# Altium schematic symbol library Chipset.SchLib: 12 symbols
Pins are listed as number, name and electrical type; pins without a type are passive.

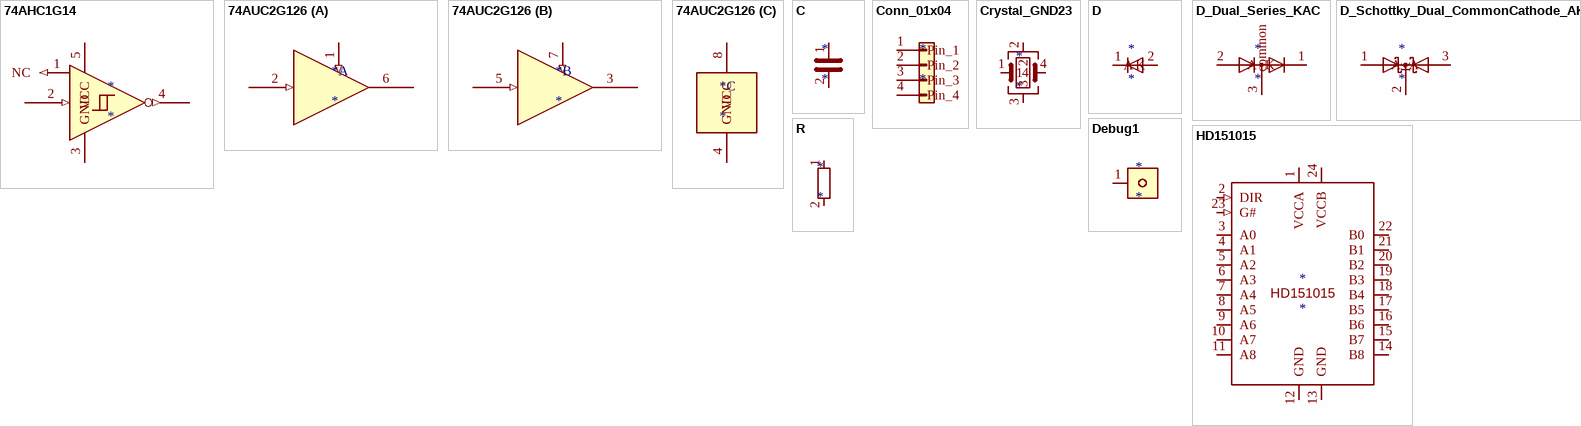
[diagram p0: symbols 74AHC1G14 to R]

## 74AHC1G14
designator *
pins: 1 NC (in), 2 (in), 3 GND (power), 4 (out), 5 VCC (power)

## 74AUC2G126
designator *
part A pins: 1 (in), 2 (in), 6 (hiz)
part B pins: 3 (hiz), 5 (in), 7 (in)
part C pins: 4 GND (power), 8 VCC (power)

## C
designator *
pins: 1, 2

## Conn_01x04
designator *
pins: 1 Pin_1, 2 Pin_2, 3 Pin_3, 4 Pin_4

## Crystal_GND23
designator *
pins: 1, 2, 3, 4

## D
designator *
pins: 1 K, 2 A

## D_Dual_Series_KAC
designator *
pins: 1 K, 2 A, 3 common

## D_Schottky_Dual_CommonCathode_AKA
designator *
pins: 1 A, 2 K, 3 A

## Debug1
designator *
pins: 1

## HD151015
designator *
pins: 1 VCCA (power), 2 DIR (in), 3 A0 (io), 4 A1 (io), 5 A2 (io), 6 A3 (io), 7 A4 (io), 8 A5 (io), 9 A6 (io), 10 A7 (io), 11 A8 (io), 12 GND (power), 13 GND (power), 14 B8 (io), 15 B7 (io), 16 B6 (io), 17 B5 (io), 18 B4 (io), 19 B3 (io), 20 B2 (io), 21 B1 (io), 22 B0 (io), 23 G# (in), 24 VCCB (power)

## R
designator *
pins: 1, 2

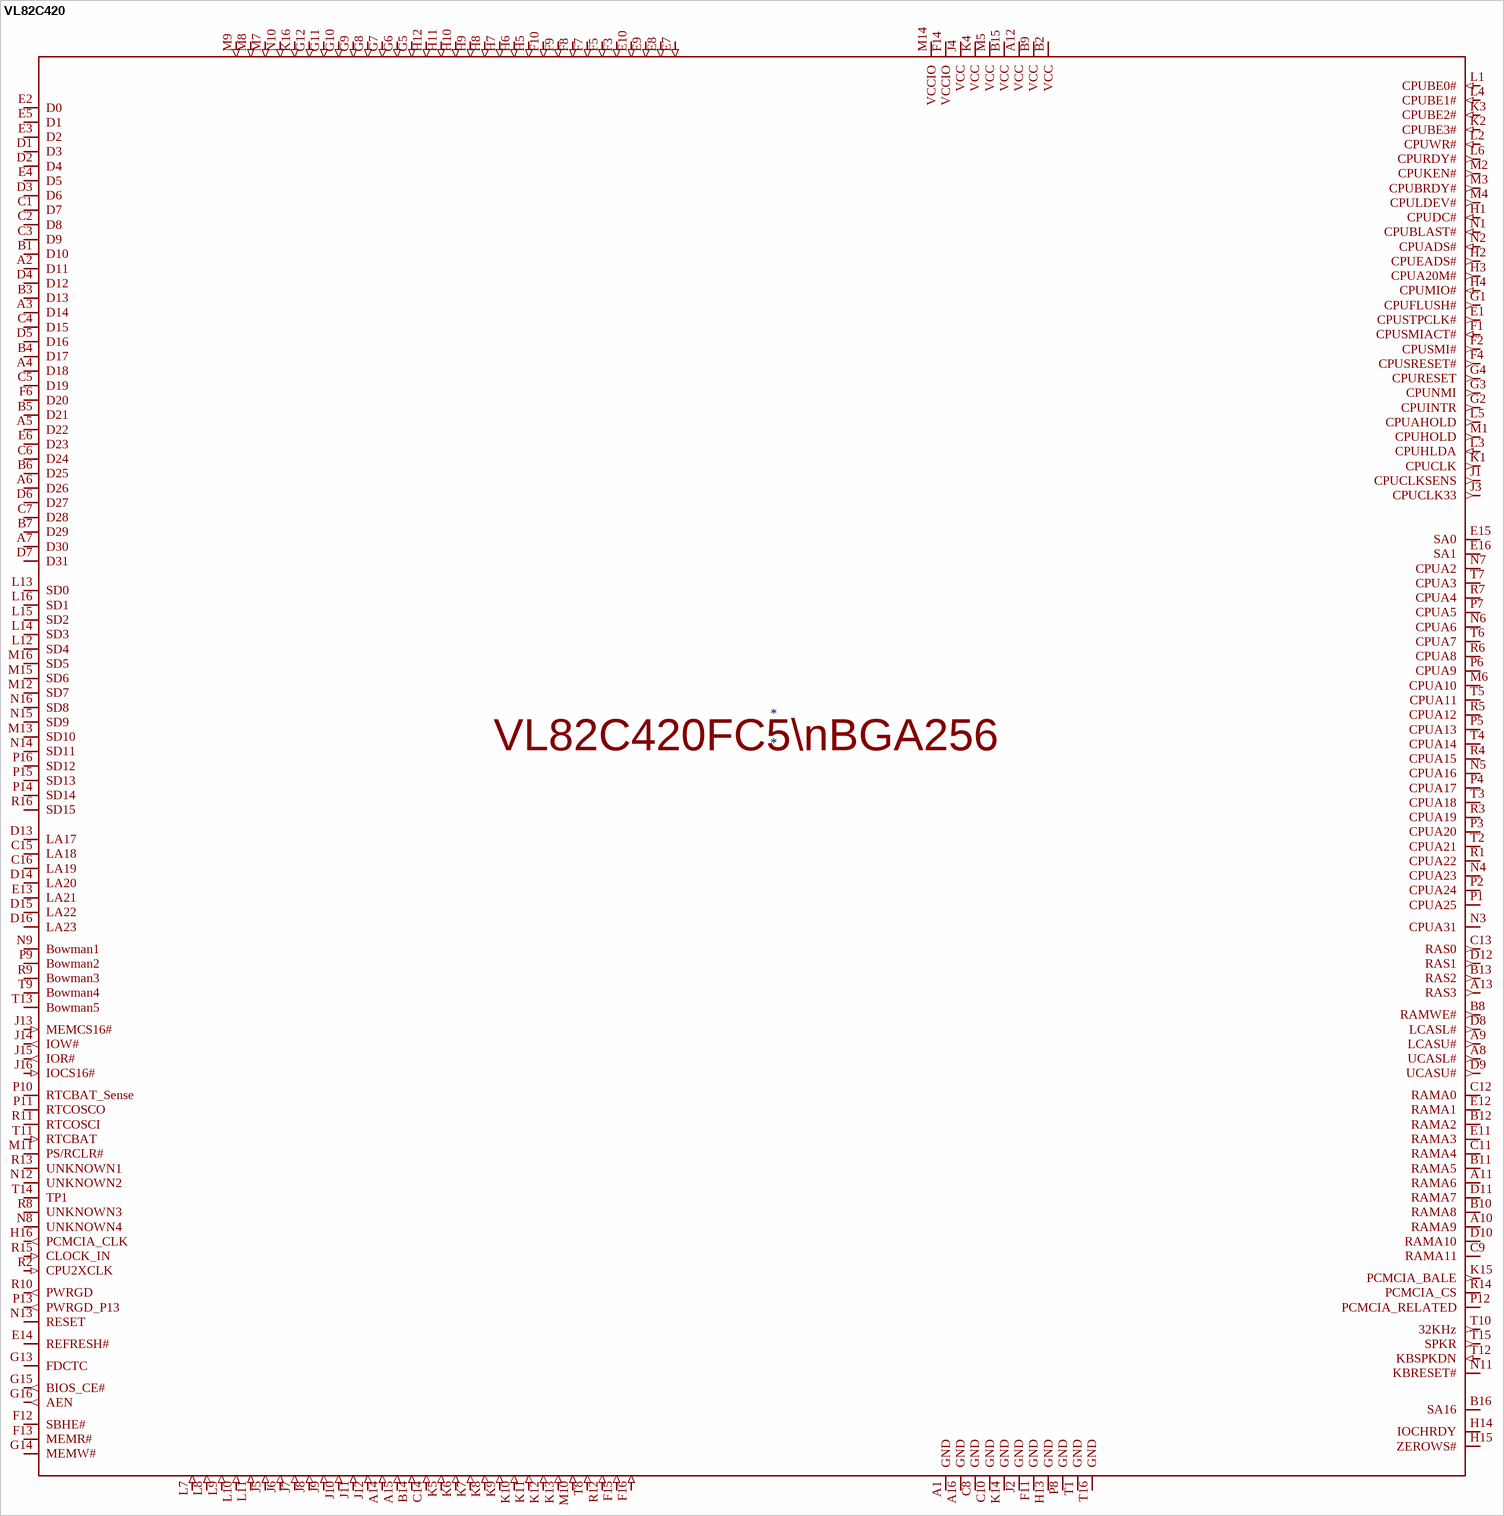
[diagram p1: symbol VL82C420]

## VL82C420
designator *
pins: A1 GND (power), A2 D11 (io), A3 D14 (io), A4 D18 (io), A5 D22 (io), A6 D26 (io), A7 D30 (io), A8 UCASL# (out), A9 LCASU# (out), A10 RAMA9 (io), A11 RAMA6 (io), A12 VCC (power), A13 RAS3 (out), A14 (in), A15 (in), A16 GND (power), B1 D10 (io), B2 VCC (power), B3 D13 (io), B4 D17 (io), B5 D21 (io), B6 D25 (io), B7 D29 (io), B8 RAMWE# (out), B9 VCC (power), B10 RAMA8 (io), B11 RAMA5 (io), B12 RAMA2 (io), B13 RAS2 (out), B14 (in), B15 VCC (power), B16 SA16 (io), C1 D7 (io), C2 D8 (io), C3 D9 (io), C4 D15 (io), C5 D19 (io), C6 D24 (io), C7 D28 (io), C8 GND (power), C9 RAMA11 (io), C10 GND (power), C11 RAMA4 (io), C12 RAMA0 (io), C13 RAS0 (out), C14 (in), C15 LA18 (io), C16 LA19 (io), D1 D3 (io), D2 D4 (io), D3 D6 (io), D4 D12 (io), D5 D16 (io), D6 D27 (io), D7 D31 (io), D8 LCASL# (out), D9 UCASU# (out), D10 RAMA10 (io), D11 RAMA7 (io), D12 RAS1 (out), D13 LA17 (io), D14 LA20 (io), D15 LA22 (io), D16 LA23 (io), E1 CPUSTPCLK# (out), E2 D0 (io), E3 D2 (io), E4 D5 (io), E5 D1 (io), E6 D23 (io), E7 (in), E8 (in), E9 (in), E10 (in), E11 RAMA3 (io), E12 RAMA1 (io), E13 LA21 (io), E14 REFRESH# (io), E15 SA0 (io), E16 SA1 (io), F1 CPUSMIACT# (in), F2 CPUSMI# (out), F3 (in), F4 CPUSRESET# (out), F5 (in), F6 D20 (io), F7 (in), F8 (in), F9 (in), F10 (in), F11 GND (power), F12 SBHE# (io), F13 MEMR# (io), F14 VCCIO (power), F15 (in), F16 (in), G1 CPUFLUSH# (out), G2 CPUINTR (out), G3 CPUNMI (out), G4 CPURESET (out), G5 (in), G6 (in), G7 (in), G8 (in), G9 (in), G10 (in), G11 (in), G12 (in), G13 FDCTC (io), G14 MEMW# (io), G15 BIOS_CE# (out), G16 AEN (out), H1 CPUDC# (in), H2 CPUEADS# (out), H3 CPUA20M# (out), H4 CPUMIO# (in), H5 (in), H6 (in), H7 (in), H8 (in), H9 (in), H10 (in), H11 (in), H12 (in), H13 GND (power), H14 IOCHRDY (io), H15 ZEROWS# (io), H16 PCMCIA_CLK (out), J1 CPUCLKSENS (out), J2 GND (power), J3 CPUCLK33 (out), J4 VCC (power), J5 (in), J6 (in), J7 (in), J8 (in), J9 (in), J10 (in), J11 (in), J12 (in), J13 MEMCS16# (in), J14 IOW# (out), J15 IOR# (out), J16 IOCS16# (in), K1 CPUCLK (out), K2 CPUBE3# (in), K3 CPUBE2# (in), K4 VCC (power), K5 (in), K6 (in), K7 (in), K8 (in), K9 (in), K10 (in), K11 (in), K12 (in), K13 (in), K14 GND (power), K15 PCMCIA_BALE (out), K16 (in), L1 CPUBE0# (in), L2 CPUWR# (in), L3 CPUHLDA (in), L4 CPUBE1# (in), L5 CPUAHOLD (out), L6 CPURDY# (out), L7 (in), L8 (in), L9 (in), L10 (in), L11 (in), L12 SD4 (io), L13 SD0 (io), L14 SD3 (io), L15 SD2 (io), L16 SD1 (io), M1 CPUHOLD (out), M2 CPUKEN# (out), M3 CPUBRDY# (out), M4 CPULDEV# (out), M5 VCC (power), M6 CPUA10 (io), M7 (in), M8 (in), M9 (in), M10 (in), M11 PS/RCLR# (io), M12 SD7 (io), M13 SD10 (io), M14 VCCIO (power), M15 SD6 (io), M16 SD5 (io), N1 CPUBLAST# (in), N2 CPUADS# (in), N3 CPUA31 (io), N4 CPUA23 (io), N5 CPUA16 (io), N6 CPUA6 (io), N7 CPUA2 (io), N8 UNKNOWN4 (io), N9 Bowman1 (io), N10 (in), N11 KBRESET# (io), N12 UNKNOWN2 (io), N13 RESET (io), N14 SD11 (io), N15 SD9 (io), N16 SD8 (io), P1 CPUA25 (io), P2 CPUA24 (io), P3 CPUA20 (io), P4 CPUA17 (io), P5 CPUA13 (io), P6 CPUA9 (io), P7 CPUA5 (io), P8 GND (power), P9 Bowman2 (io), P10 RTCBAT_Sense (io), P11 RTCOSCO (io), P12 PCMCIA_RELATED (io), P13 PWRGD_P13 (out), P14 SD14 (io), P15 SD13 (io), P16 SD12 (io), R1 CPUA22 (io), R2 CPU2XCLK (in), R3 CPUA19 (io), R4 CPUA15 (io), R5 CPUA12 (io), R6 CPUA8 (io), R7 CPUA4 (io), R8 UNKNOWN3 (io), R9 Bowman3 (io), R10 PWRGD (out), R11 RTCOSCI (io), R12 (in), R13 UNKNOWN1 (io), R14 PCMCIA_CS (io), R15 CLOCK_IN (in), R16 SD15 (io), T1 GND (power), T2 CPUA21 (io), T3 CPUA18 (io), T4 CPUA14 (io), T5 CPUA11 (io), T6 CPUA7 (io), T7 CPUA3 (io), T8 (in), T9 Bowman4 (io), T10 32KHz (out), T11 RTCBAT (in), T12 KBSPKDN (in), T13 Bowman5 (io), T14 TP1 (io), T15 SPKR (out), T16 GND (power)
text: VL82C420FC5\nBGA256